# EAGLE library part M41T81S (library casovac)
Calendar IC from ST with I2C interface.
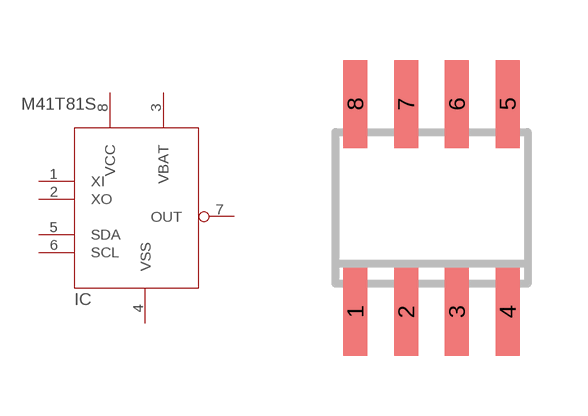
[diagram p2: symbol with the pads of SO08; footprint SO08]

Designator prefix IC

## M41T81S  [SO08]
1  XI
2  XO
3  VBAT  pwr
4  VSS  pwr
5  SDA
6  SCL
7  OUT  out
8  VCC  pwr

## Footprint SO08 (pad centres in mm)
smd 0.6 x 2.2: 1 -1.905,-2.6; 2 -0.635,-2.6; 3 0.635,-2.6; 4 1.905,-2.6; 5 1.905,2.6; 6 0.635,2.6; 7 -0.635,2.6; 8 -1.905,2.6